# Altium schematic symbol library 大电容.SchLib: 1 symbol
Pins are listed as number, name and electrical type; pins without a type are passive.

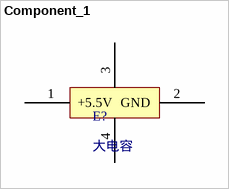
[diagram p0: symbol Component_1]

## Component_1
designator E?, comment 大电容
pins: 1 +5.5V, 2 GND, 3, 4